# EAGLE library part CAT24C44LI (library on-semiconductor-01)
Operational Amplifiers
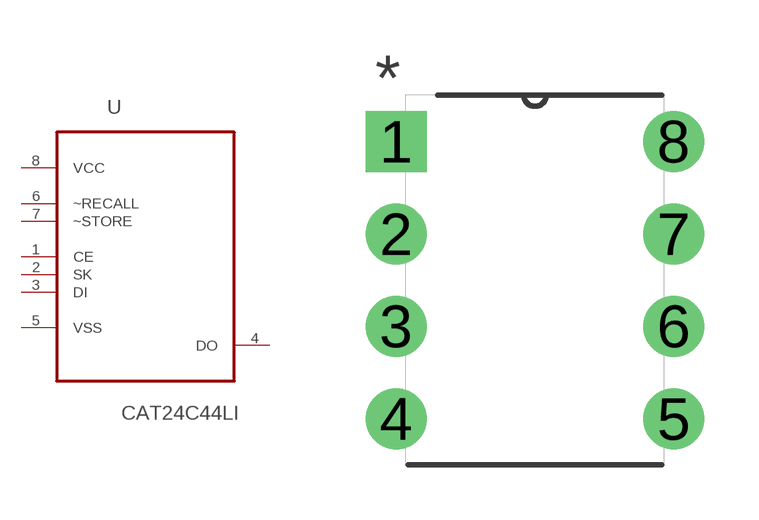
[diagram p15: symbol with the pads of DIP254P762X533-8; footprint DIP254P762X533-8]

Designator prefix U

## CAT24C44LI (MPN: CAT24C44LI; OC_FARNELL: 1718282; OC_NEWARK: 06R0564; PACKAGE: PDIP; SUPPLIER: ON SEMICONDUCTOR)  [DIP254P762X533-8]
1  CE  in
2  SK  in
3  DI  in
4  DO  out
5  VSS  pas
6  ~RECALL  in
7  ~STORE  in
8  VCC  pwr

## Footprint DIP254P762X533-8 (pad centres in mm)
drill 1.118 square: 1 -7.62,7.62
drill 1.118: 2 -7.62,5.08; 3 -7.62,2.54; 4 -7.62,0; 5 0,0; 6 0,2.54; 7 0,5.08; 8 0,7.62